# Altium schematic symbol library BeagleBone-AI_Library.SchLib: 164 symbols (part 14 of 14)
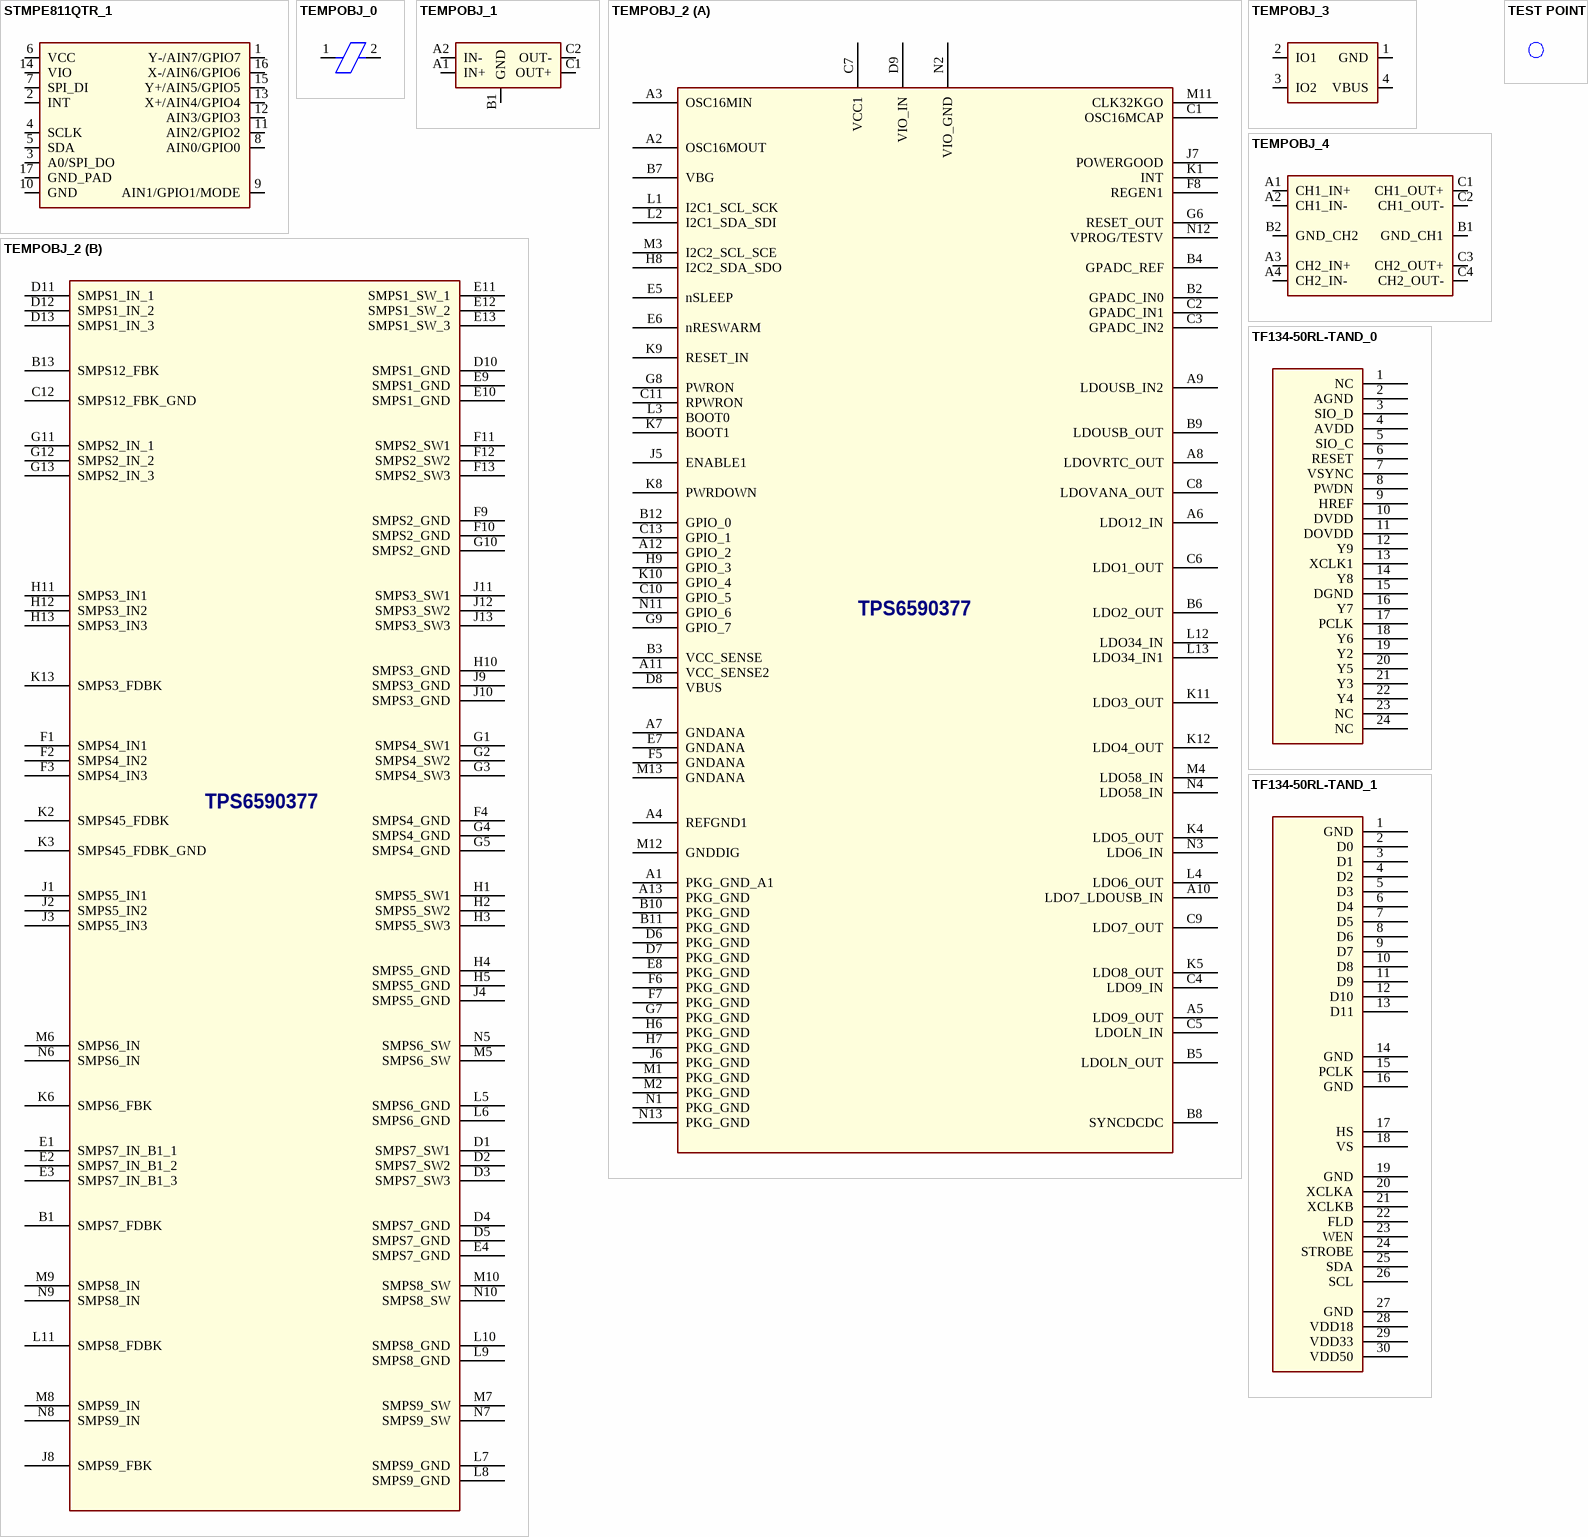
[diagram p174: symbols STMPE811QTR_1 to TF134-50RL-TAND_1]

## TEMPOBJ_2
designator U?
footprint bga12x12-169-55m
part A pins: A1 PKG_GND_A1 (power), A2 OSC16MOUT, A3 OSC16MIN, A4 REFGND1 (power), A5 LDO9_OUT, A6 LDO12_IN, A7 GNDANA (power), A8 LDOVRTC_OUT, A9 LDOUSB_IN2, A10 LDO7_LDOUSB_IN, A11 VCC_SENSE2, A12 GPIO_2, A13 PKG_GND (power), B2 GPADC_IN0, B3 VCC_SENSE, B4 GPADC_REF, B5 LDOLN_OUT, B6 LDO2_OUT, B7 VBG, B8 SYNCDCDC, B9 LDOUSB_OUT, B10 PKG_GND (power), B11 PKG_GND (power), B12 GPIO_0, C1 OSC16MCAP, C2 GPADC_IN1, C3 GPADC_IN2, C4 LDO9_IN, C5 LDOLN_IN, C6 LDO1_OUT, C7 VCC1 (power), C8 LDOVANA_OUT, C9 LDO7_OUT, C10 GPIO_5, C11 RPWRON, C13 GPIO_1, D6 PKG_GND (power), D7 PKG_GND (power), D8 VBUS, D9 VIO_IN (power), E5 nSLEEP, E6 nRESWARM, E7 GNDANA (power), E8 PKG_GND (power), F5 GNDANA (power), F6 PKG_GND (power), F7 PKG_GND (power), F8 REGEN1, G6 RESET_OUT, G7 PKG_GND (power), G8 PWRON, G9 GPIO_7, H6 PKG_GND (power), H7 PKG_GND (power), H8 I2C2_SDA_SDO, H9 GPIO_3, J5 ENABLE1, J6 PKG_GND (power), J7 POWERGOOD, K1 INT, K4 LDO5_OUT, K5 LDO8_OUT, K7 BOOT1, K8 PWRDOWN, K9 RESET_IN, K10 GPIO_4, K11 LDO3_OUT, K12 LDO4_OUT, L1 I2C1_SCL_SCK, L2 I2C1_SDA_SDI, L3 BOOT0, L4 LDO6_OUT, L12 LDO34_IN, L13 LDO34_IN1, M1 PKG_GND (power), M2 PKG_GND (power), M3 I2C2_SCL_SCE, M4 LDO58_IN (power), M11 CLK32KGO, M12 GNDDIG (power), M13 GNDANA (power), N1 PKG_GND (power), N2 VIO_GND (power), N3 LDO6_IN, N4 LDO58_IN (power), N11 GPIO_6, N12 VPROG/TESTV, N13 PKG_GND (power)
part B pins: B1 SMPS7_FDBK, B13 SMPS12_FBK, C12 SMPS12_FBK_GND, D1 SMPS7_SW1 (power), D2 SMPS7_SW2 (power), D3 SMPS7_SW3 (power), D4 SMPS7_GND (power), D5 SMPS7_GND (power), D10 SMPS1_GND (power), D11 SMPS1_IN_1, D12 SMPS1_IN_2, D13 SMPS1_IN_3, E1 SMPS7_IN_B1_1 (power), E2 SMPS7_IN_B1_2 (power), E3 SMPS7_IN_B1_3 (power), E4 SMPS7_GND (power), E9 SMPS1_GND (power), E10 SMPS1_GND (power), E11 SMPS1_SW_1, E12 SMPS1_SW_2, E13 SMPS1_SW_3, F1 SMPS4_IN1, F2 SMPS4_IN2, F3 SMPS4_IN3, F4 SMPS4_GND (power), F9 SMPS2_GND (power), F10 SMPS2_GND (power), F11 SMPS2_SW1, F12 SMPS2_SW2, F13 SMPS2_SW3, G1 SMPS4_SW1, G2 SMPS4_SW2, G3 SMPS4_SW3, G4 SMPS4_GND (power), G5 SMPS4_GND (power), G10 SMPS2_GND (power), G11 SMPS2_IN_1, G12 SMPS2_IN_2, G13 SMPS2_IN_3, H1 SMPS5_SW1, H2 SMPS5_SW2, H3 SMPS5_SW3, H4 SMPS5_GND (power), H5 SMPS5_GND (power), H10 SMPS3_GND (power), H11 SMPS3_IN1, H12 SMPS3_IN2, H13 SMPS3_IN3, J1 SMPS5_IN1, J2 SMPS5_IN2, J3 SMPS5_IN3, J4 SMPS5_GND (power), J8 SMPS9_FBK, J9 SMPS3_GND (power), J10 SMPS3_GND (power), J11 SMPS3_SW1, J12 SMPS3_SW2, J13 SMPS3_SW3, K2 SMPS45_FDBK, K3 SMPS45_FDBK_GND, K6 SMPS6_FBK (power), K13 SMPS3_FDBK, L5 SMPS6_GND (power), L6 SMPS6_GND (power), L7 SMPS9_GND (power), L8 SMPS9_GND (power), L9 SMPS8_GND (power), L10 SMPS8_GND (power), L11 SMPS8_FDBK, M5 SMPS6_SW (power), M6 SMPS6_IN (power), M7 SMPS9_SW (power), M8 SMPS9_IN (power), M9 SMPS8_IN (power), M10 SMPS8_SW (power), N5 SMPS6_SW (power), N6 SMPS6_IN (power), N7 SMPS9_SW (power), N8 SMPS9_IN (power), N9 SMPS8_IN (power), N10 SMPS8_SW (power)
part A text: TPS6590377
part B text: TPS6590377

## TEMPOBJ_3
designator D?
pins: 1 GND, 2 IO1, 3 IO2, 4 VBUS

## TEMPOBJ_4
designator U?
pins: A1 CH1_IN+, A2 CH1_IN-, A3 CH2_IN+, A4 CH2_IN-, B1 GND_CH1, B2 GND_CH2, C1 CH1_OUT+, C2 CH1_OUT-, C3 CH2_OUT+, C4 CH2_OUT-

## TEST POINT
designator TP?  (value not drawn)
footprint TP1-8040
pins: 1 TP

## TF134-50RL-TAND_0
designator J?
pins: 1 NC, 2 AGND, 3 SIO_D, 4 AVDD, 5 SIO_C, 6 RESET, 7 VSYNC, 8 PWDN, 9 HREF, 10 DVDD, 11 DOVDD, 12 Y9, 13 XCLK1, 14 Y8, 15 DGND, 16 Y7, 17 PCLK, 18 Y6, 19 Y2, 20 Y5, 21 Y3, 22 Y4, 23 NC, 24 NC

## TF134-50RL-TAND_1
designator J?
pins: 1 GND (power), 2 D0, 3 D1, 4 D2, 5 D3, 6 D4, 7 D5, 8 D6, 9 D7, 10 D8, 11 D9, 12 D10, 13 D11, 14 GND (power), 15 PCLK, 16 GND (power), 17 HS, 18 VS, 19 GND (power), 20 XCLKA, 21 XCLKB, 22 FLD, 23 WEN, 24 STROBE, 25 SDA, 26 SCL, 27 GND (power), 28 VDD18 (power), 29 VDD33 (power), 30 VDD50 (power)

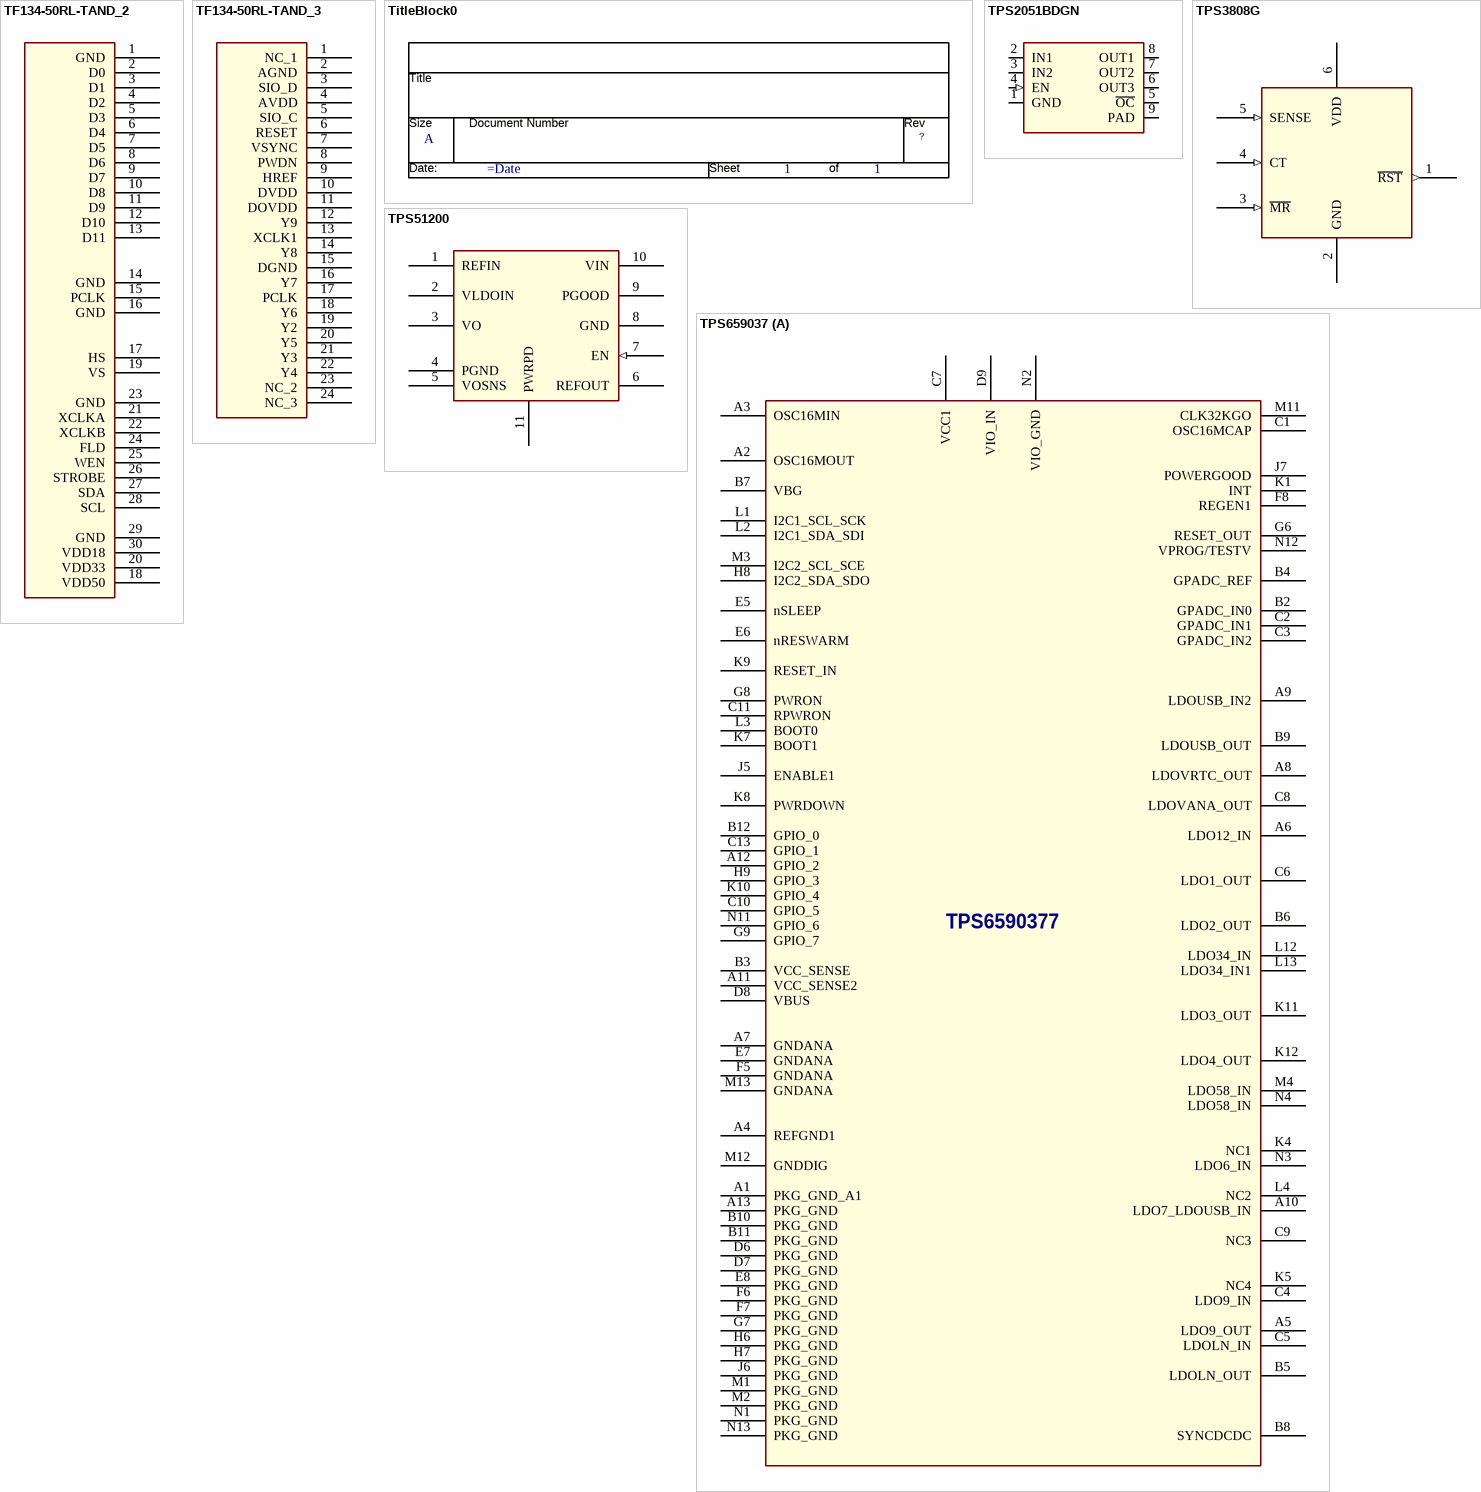
[diagram p156: symbols TF134-50RL-TAND_2 to TPS659037]

## TF134-50RL-TAND_2
designator J?
pins: 1 GND (power), 2 D0, 3 D1, 4 D2, 5 D3, 6 D4, 7 D5, 8 D6, 9 D7, 10 D8, 11 D9, 12 D10, 13 D11, 14 GND (power), 15 PCLK, 16 GND (power), 17 HS, 18 VDD50 (power), 19 VS, 20 VDD33 (power), 21 XCLKA, 22 XCLKB, 23 GND (power), 24 FLD, 25 WEN, 26 STROBE, 27 SDA, 28 SCL, 29 GND (power), 30 VDD18 (power)

## TF134-50RL-TAND_3
designator J?
pins: 1 NC_1, 2 AGND, 3 SIO_D, 4 AVDD, 5 SIO_C, 6 RESET, 7 VSYNC, 8 PWDN, 9 HREF, 10 DVDD, 11 DOVDD, 12 Y9, 13 XCLK1, 14 Y8, 15 DGND, 16 Y7, 17 PCLK, 18 Y6, 19 Y2, 20 Y5, 21 Y3, 22 Y4, 23 NC_2, 24 NC_3

## TitleBlock0
designator *  Page Size: A  Page Number: 1  (hidden comment: *)  (graphical)
Page Create Date: March  8, 1995; RevCode: ?; Page Count: 1; Page Modify Date: =Date
text: Title; Size; Document Number; Rev; Date:; Sheet; of

## TPS2051BDGN
designator U?
pins: 1 GND (power), 2 IN1 (power), 3 IN2 (power), 4 EN (in), 5 ~{OC}, 6 OUT3 (power), 7 OUT2 (power), 8 OUT1 (power), 9 PAD

## TPS3808G
designator U?
pins: 1 ~{RST} (out), 2 GND (power), 3 ~{MR} (in), 4 CT (in), 5 SENSE (in), 6 VDD (power)

## TPS51200
designator U?
pins: 1 REFIN, 2 VLDOIN, 3 VO, 4 PGND (power), 5 VOSNS, 6 REFOUT, 7 EN (in), 8 GND (power), 9 PGOOD, 10 VIN, 11 PWRPD (power)

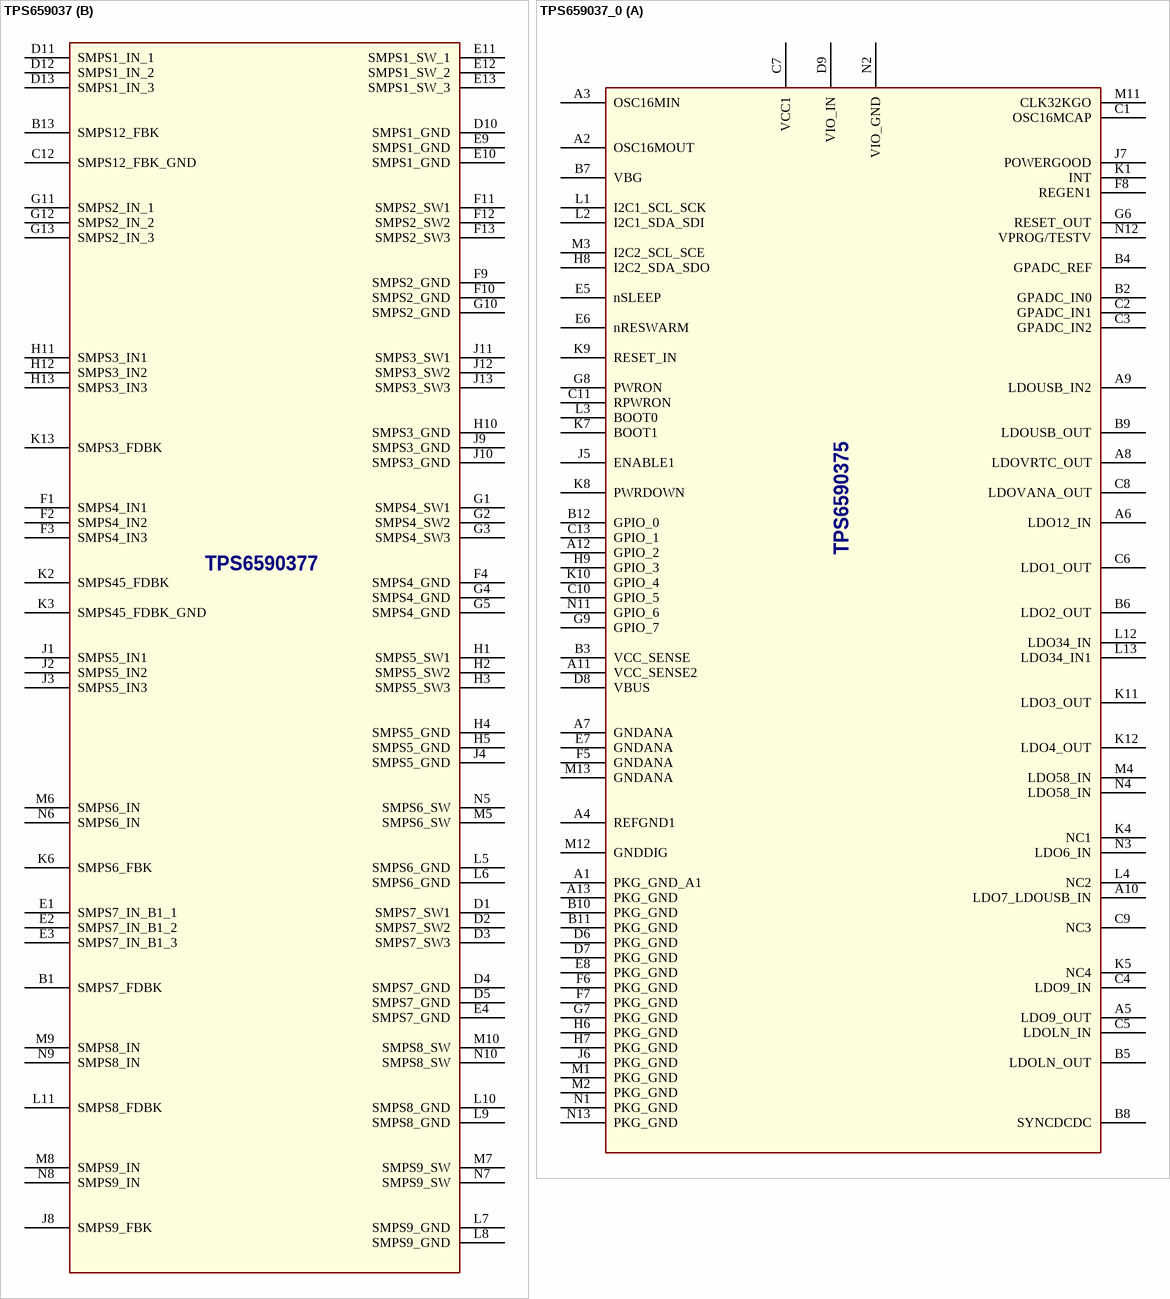
[diagram p157: symbols TPS659037 to TPS659037_0]

## TPS659037
designator U?
footprint bga12x12-169-55m
part A pins: A1 PKG_GND_A1 (power), A2 OSC16MOUT, A3 OSC16MIN, A4 REFGND1 (power), A5 LDO9_OUT, A6 LDO12_IN, A7 GNDANA (power), A8 LDOVRTC_OUT, A9 LDOUSB_IN2, A10 LDO7_LDOUSB_IN, A11 VCC_SENSE2, A12 GPIO_2, A13 PKG_GND (power), B2 GPADC_IN0, B3 VCC_SENSE, B4 GPADC_REF, B5 LDOLN_OUT, B6 LDO2_OUT, B7 VBG, B8 SYNCDCDC, B9 LDOUSB_OUT, B10 PKG_GND (power), B11 PKG_GND (power), B12 GPIO_0, C1 OSC16MCAP, C2 GPADC_IN1, C3 GPADC_IN2, C4 LDO9_IN, C5 LDOLN_IN, C6 LDO1_OUT, C7 VCC1 (power), C8 LDOVANA_OUT, C9 NC3, C10 GPIO_5, C11 RPWRON, C13 GPIO_1, D6 PKG_GND (power), D7 PKG_GND (power), D8 VBUS, D9 VIO_IN (power), E5 nSLEEP, E6 nRESWARM, E7 GNDANA (power), E8 PKG_GND (power), F5 GNDANA (power), F6 PKG_GND (power), F7 PKG_GND (power), F8 REGEN1, G6 RESET_OUT, G7 PKG_GND (power), G8 PWRON, G9 GPIO_7, H6 PKG_GND (power), H7 PKG_GND (power), H8 I2C2_SDA_SDO, H9 GPIO_3, J5 ENABLE1, J6 PKG_GND (power), J7 POWERGOOD, K1 INT, K4 NC1, K5 NC4, K7 BOOT1, K8 PWRDOWN, K9 RESET_IN, K10 GPIO_4, K11 LDO3_OUT, K12 LDO4_OUT, L1 I2C1_SCL_SCK, L2 I2C1_SDA_SDI, L3 BOOT0, L4 NC2, L12 LDO34_IN, L13 LDO34_IN1, M1 PKG_GND (power), M2 PKG_GND (power), M3 I2C2_SCL_SCE, M4 LDO58_IN (power), M11 CLK32KGO, M12 GNDDIG (power), M13 GNDANA (power), N1 PKG_GND (power), N2 VIO_GND (power), N3 LDO6_IN, N4 LDO58_IN (power), N11 GPIO_6, N12 VPROG/TESTV, N13 PKG_GND (power)
part B pins: B1 SMPS7_FDBK, B13 SMPS12_FBK, C12 SMPS12_FBK_GND, D1 SMPS7_SW1 (power), D2 SMPS7_SW2 (power), D3 SMPS7_SW3 (power), D4 SMPS7_GND (power), D5 SMPS7_GND (power), D10 SMPS1_GND (power), D11 SMPS1_IN_1, D12 SMPS1_IN_2, D13 SMPS1_IN_3, E1 SMPS7_IN_B1_1 (power), E2 SMPS7_IN_B1_2 (power), E3 SMPS7_IN_B1_3 (power), E4 SMPS7_GND (power), E9 SMPS1_GND (power), E10 SMPS1_GND (power), E11 SMPS1_SW_1, E12 SMPS1_SW_2, E13 SMPS1_SW_3, F1 SMPS4_IN1, F2 SMPS4_IN2, F3 SMPS4_IN3, F4 SMPS4_GND (power), F9 SMPS2_GND (power), F10 SMPS2_GND (power), F11 SMPS2_SW1, F12 SMPS2_SW2, F13 SMPS2_SW3, G1 SMPS4_SW1, G2 SMPS4_SW2, G3 SMPS4_SW3, G4 SMPS4_GND (power), G5 SMPS4_GND (power), G10 SMPS2_GND (power), G11 SMPS2_IN_1, G12 SMPS2_IN_2, G13 SMPS2_IN_3, H1 SMPS5_SW1, H2 SMPS5_SW2, H3 SMPS5_SW3, H4 SMPS5_GND (power), H5 SMPS5_GND (power), H10 SMPS3_GND (power), H11 SMPS3_IN1, H12 SMPS3_IN2, H13 SMPS3_IN3, J1 SMPS5_IN1, J2 SMPS5_IN2, J3 SMPS5_IN3, J4 SMPS5_GND (power), J8 SMPS9_FBK, J9 SMPS3_GND (power), J10 SMPS3_GND (power), J11 SMPS3_SW1, J12 SMPS3_SW2, J13 SMPS3_SW3, K2 SMPS45_FDBK, K3 SMPS45_FDBK_GND, K6 SMPS6_FBK (power), K13 SMPS3_FDBK, L5 SMPS6_GND (power), L6 SMPS6_GND (power), L7 SMPS9_GND (power), L8 SMPS9_GND (power), L9 SMPS8_GND (power), L10 SMPS8_GND (power), L11 SMPS8_FDBK, M5 SMPS6_SW (power), M6 SMPS6_IN (power), M7 SMPS9_SW (power), M8 SMPS9_IN (power), M9 SMPS8_IN (power), M10 SMPS8_SW (power), N5 SMPS6_SW (power), N6 SMPS6_IN (power), N7 SMPS9_SW (power), N8 SMPS9_IN (power), N9 SMPS8_IN (power), N10 SMPS8_SW (power)
part A text: TPS6590377
part B text: TPS6590377

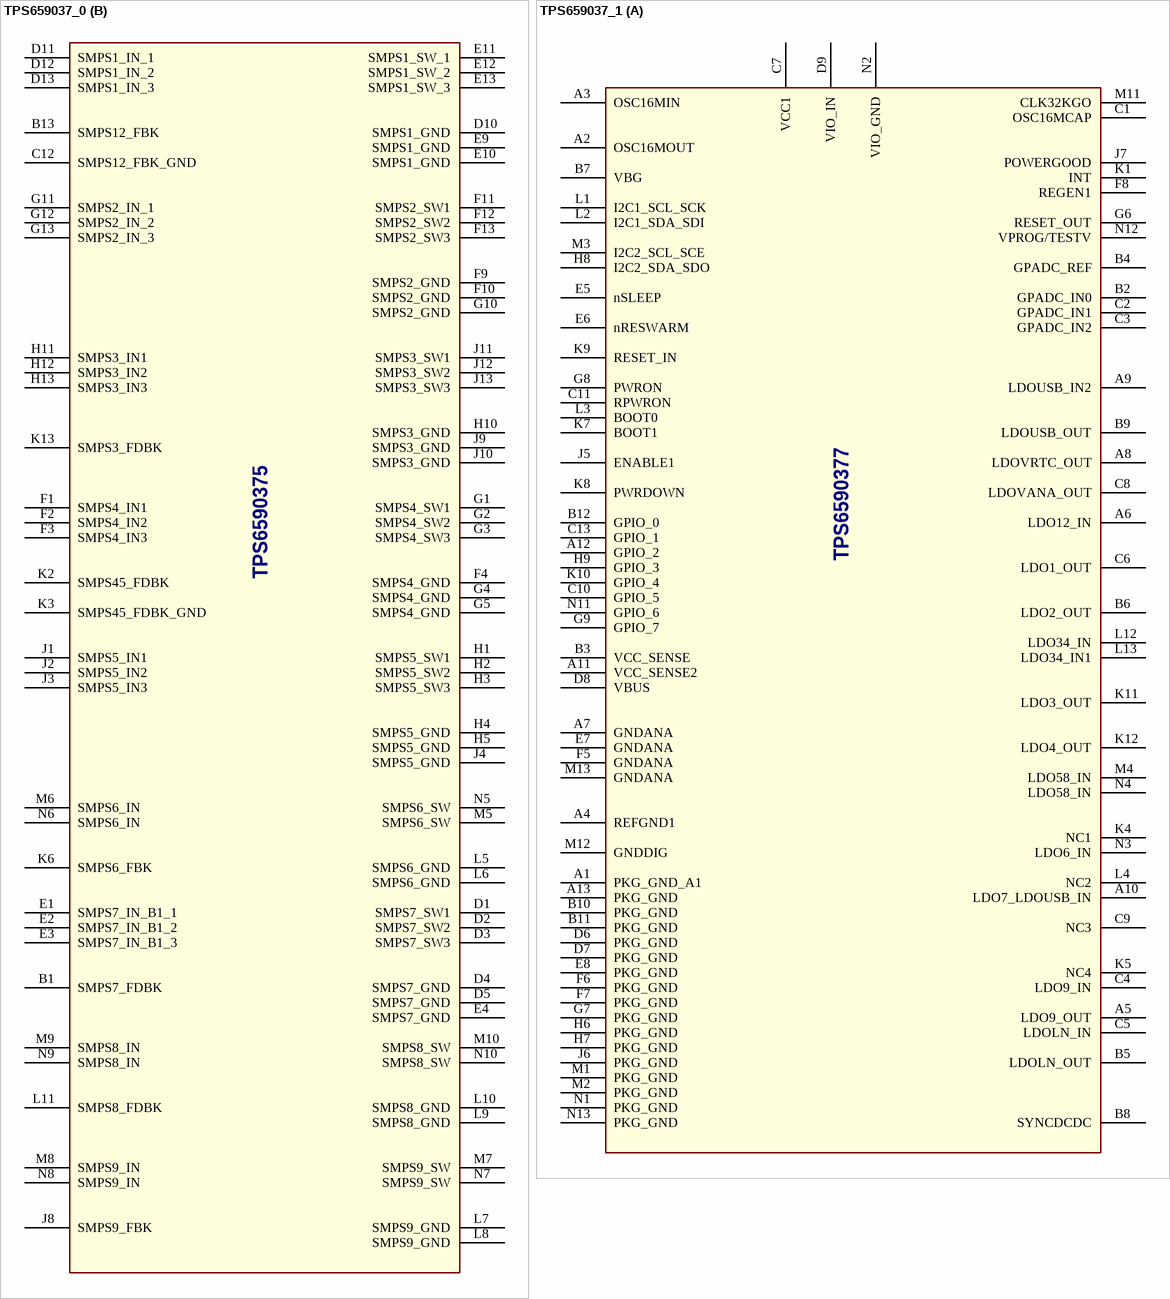
[diagram p158: symbols TPS659037_0 to TPS659037_1]

## TPS659037_0
designator U?
footprint bga12x12-169-55m
part A pins: A1 PKG_GND_A1 (power), A2 OSC16MOUT, A3 OSC16MIN, A4 REFGND1 (power), A5 LDO9_OUT, A6 LDO12_IN, A7 GNDANA (power), A8 LDOVRTC_OUT, A9 LDOUSB_IN2, A10 LDO7_LDOUSB_IN, A11 VCC_SENSE2, A12 GPIO_2, A13 PKG_GND (power), B2 GPADC_IN0, B3 VCC_SENSE, B4 GPADC_REF, B5 LDOLN_OUT, B6 LDO2_OUT, B7 VBG, B8 SYNCDCDC, B9 LDOUSB_OUT, B10 PKG_GND (power), B11 PKG_GND (power), B12 GPIO_0, C1 OSC16MCAP, C2 GPADC_IN1, C3 GPADC_IN2, C4 LDO9_IN, C5 LDOLN_IN, C6 LDO1_OUT, C7 VCC1 (power), C8 LDOVANA_OUT, C9 NC3, C10 GPIO_5, C11 RPWRON, C13 GPIO_1, D6 PKG_GND (power), D7 PKG_GND (power), D8 VBUS, D9 VIO_IN (power), E5 nSLEEP, E6 nRESWARM, E7 GNDANA (power), E8 PKG_GND (power), F5 GNDANA (power), F6 PKG_GND (power), F7 PKG_GND (power), F8 REGEN1, G6 RESET_OUT, G7 PKG_GND (power), G8 PWRON, G9 GPIO_7, H6 PKG_GND (power), H7 PKG_GND (power), H8 I2C2_SDA_SDO, H9 GPIO_3, J5 ENABLE1, J6 PKG_GND (power), J7 POWERGOOD, K1 INT, K4 NC1, K5 NC4, K7 BOOT1, K8 PWRDOWN, K9 RESET_IN, K10 GPIO_4, K11 LDO3_OUT, K12 LDO4_OUT, L1 I2C1_SCL_SCK, L2 I2C1_SDA_SDI, L3 BOOT0, L4 NC2, L12 LDO34_IN, L13 LDO34_IN1, M1 PKG_GND (power), M2 PKG_GND (power), M3 I2C2_SCL_SCE, M4 LDO58_IN (power), M11 CLK32KGO, M12 GNDDIG (power), M13 GNDANA (power), N1 PKG_GND (power), N2 VIO_GND (power), N3 LDO6_IN, N4 LDO58_IN (power), N11 GPIO_6, N12 VPROG/TESTV, N13 PKG_GND (power)
part B pins: B1 SMPS7_FDBK, B13 SMPS12_FBK, C12 SMPS12_FBK_GND, D1 SMPS7_SW1 (power), D2 SMPS7_SW2 (power), D3 SMPS7_SW3 (power), D4 SMPS7_GND (power), D5 SMPS7_GND (power), D10 SMPS1_GND (power), D11 SMPS1_IN_1, D12 SMPS1_IN_2, D13 SMPS1_IN_3, E1 SMPS7_IN_B1_1 (power), E2 SMPS7_IN_B1_2 (power), E3 SMPS7_IN_B1_3 (power), E4 SMPS7_GND (power), E9 SMPS1_GND (power), E10 SMPS1_GND (power), E11 SMPS1_SW_1, E12 SMPS1_SW_2, E13 SMPS1_SW_3, F1 SMPS4_IN1, F2 SMPS4_IN2, F3 SMPS4_IN3, F4 SMPS4_GND (power), F9 SMPS2_GND (power), F10 SMPS2_GND (power), F11 SMPS2_SW1, F12 SMPS2_SW2, F13 SMPS2_SW3, G1 SMPS4_SW1, G2 SMPS4_SW2, G3 SMPS4_SW3, G4 SMPS4_GND (power), G5 SMPS4_GND (power), G10 SMPS2_GND (power), G11 SMPS2_IN_1, G12 SMPS2_IN_2, G13 SMPS2_IN_3, H1 SMPS5_SW1, H2 SMPS5_SW2, H3 SMPS5_SW3, H4 SMPS5_GND (power), H5 SMPS5_GND (power), H10 SMPS3_GND (power), H11 SMPS3_IN1, H12 SMPS3_IN2, H13 SMPS3_IN3, J1 SMPS5_IN1, J2 SMPS5_IN2, J3 SMPS5_IN3, J4 SMPS5_GND (power), J8 SMPS9_FBK, J9 SMPS3_GND (power), J10 SMPS3_GND (power), J11 SMPS3_SW1, J12 SMPS3_SW2, J13 SMPS3_SW3, K2 SMPS45_FDBK, K3 SMPS45_FDBK_GND, K6 SMPS6_FBK (power), K13 SMPS3_FDBK, L5 SMPS6_GND (power), L6 SMPS6_GND (power), L7 SMPS9_GND (power), L8 SMPS9_GND (power), L9 SMPS8_GND (power), L10 SMPS8_GND (power), L11 SMPS8_FDBK, M5 SMPS6_SW (power), M6 SMPS6_IN (power), M7 SMPS9_SW (power), M8 SMPS9_IN (power), M9 SMPS8_IN (power), M10 SMPS8_SW (power), N5 SMPS6_SW (power), N6 SMPS6_IN (power), N7 SMPS9_SW (power), N8 SMPS9_IN (power), N9 SMPS8_IN (power), N10 SMPS8_SW (power)
part A text: TPS6590375
part B text: TPS6590375

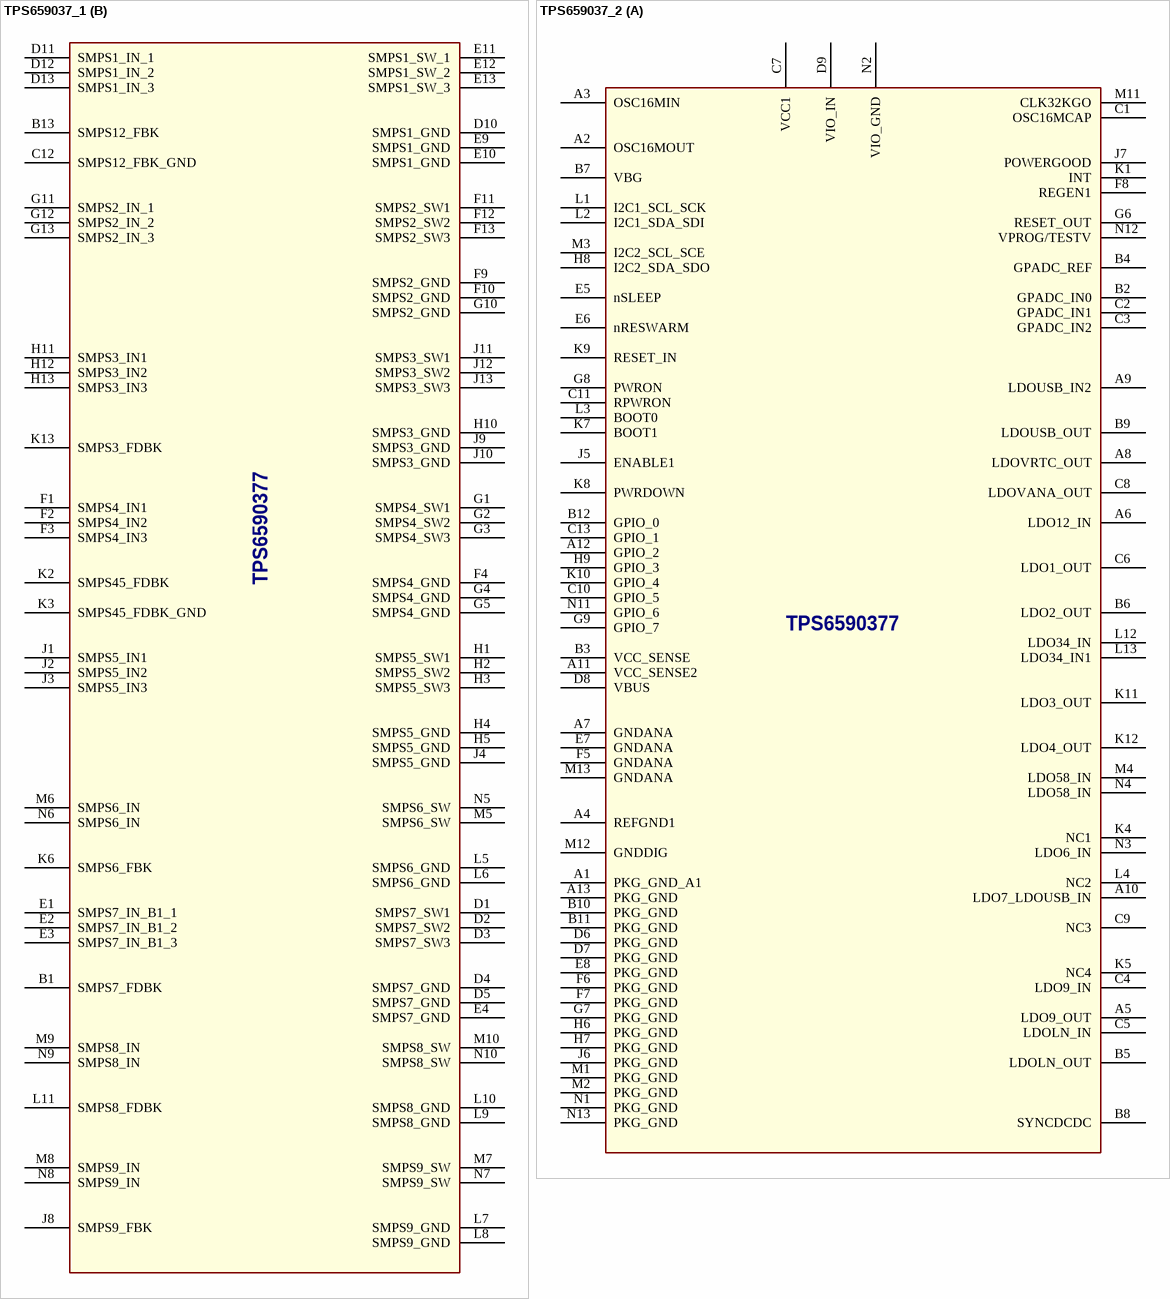
[diagram p159: symbols TPS659037_1 to TPS659037_2]

## TPS659037_1
designator U?
footprint bga12x12-169-55m
part A pins: A1 PKG_GND_A1 (power), A2 OSC16MOUT, A3 OSC16MIN, A4 REFGND1 (power), A5 LDO9_OUT, A6 LDO12_IN, A7 GNDANA (power), A8 LDOVRTC_OUT, A9 LDOUSB_IN2, A10 LDO7_LDOUSB_IN, A11 VCC_SENSE2, A12 GPIO_2, A13 PKG_GND (power), B2 GPADC_IN0, B3 VCC_SENSE, B4 GPADC_REF, B5 LDOLN_OUT, B6 LDO2_OUT, B7 VBG, B8 SYNCDCDC, B9 LDOUSB_OUT, B10 PKG_GND (power), B11 PKG_GND (power), B12 GPIO_0, C1 OSC16MCAP, C2 GPADC_IN1, C3 GPADC_IN2, C4 LDO9_IN, C5 LDOLN_IN, C6 LDO1_OUT, C7 VCC1 (power), C8 LDOVANA_OUT, C9 NC3, C10 GPIO_5, C11 RPWRON, C13 GPIO_1, D6 PKG_GND (power), D7 PKG_GND (power), D8 VBUS, D9 VIO_IN (power), E5 nSLEEP, E6 nRESWARM, E7 GNDANA (power), E8 PKG_GND (power), F5 GNDANA (power), F6 PKG_GND (power), F7 PKG_GND (power), F8 REGEN1, G6 RESET_OUT, G7 PKG_GND (power), G8 PWRON, G9 GPIO_7, H6 PKG_GND (power), H7 PKG_GND (power), H8 I2C2_SDA_SDO, H9 GPIO_3, J5 ENABLE1, J6 PKG_GND (power), J7 POWERGOOD, K1 INT, K4 NC1, K5 NC4, K7 BOOT1, K8 PWRDOWN, K9 RESET_IN, K10 GPIO_4, K11 LDO3_OUT, K12 LDO4_OUT, L1 I2C1_SCL_SCK, L2 I2C1_SDA_SDI, L3 BOOT0, L4 NC2, L12 LDO34_IN, L13 LDO34_IN1, M1 PKG_GND (power), M2 PKG_GND (power), M3 I2C2_SCL_SCE, M4 LDO58_IN (power), M11 CLK32KGO, M12 GNDDIG (power), M13 GNDANA (power), N1 PKG_GND (power), N2 VIO_GND (power), N3 LDO6_IN, N4 LDO58_IN (power), N11 GPIO_6, N12 VPROG/TESTV, N13 PKG_GND (power)
part B pins: B1 SMPS7_FDBK, B13 SMPS12_FBK, C12 SMPS12_FBK_GND, D1 SMPS7_SW1 (power), D2 SMPS7_SW2 (power), D3 SMPS7_SW3 (power), D4 SMPS7_GND (power), D5 SMPS7_GND (power), D10 SMPS1_GND (power), D11 SMPS1_IN_1, D12 SMPS1_IN_2, D13 SMPS1_IN_3, E1 SMPS7_IN_B1_1 (power), E2 SMPS7_IN_B1_2 (power), E3 SMPS7_IN_B1_3 (power), E4 SMPS7_GND (power), E9 SMPS1_GND (power), E10 SMPS1_GND (power), E11 SMPS1_SW_1, E12 SMPS1_SW_2, E13 SMPS1_SW_3, F1 SMPS4_IN1, F2 SMPS4_IN2, F3 SMPS4_IN3, F4 SMPS4_GND (power), F9 SMPS2_GND (power), F10 SMPS2_GND (power), F11 SMPS2_SW1, F12 SMPS2_SW2, F13 SMPS2_SW3, G1 SMPS4_SW1, G2 SMPS4_SW2, G3 SMPS4_SW3, G4 SMPS4_GND (power), G5 SMPS4_GND (power), G10 SMPS2_GND (power), G11 SMPS2_IN_1, G12 SMPS2_IN_2, G13 SMPS2_IN_3, H1 SMPS5_SW1, H2 SMPS5_SW2, H3 SMPS5_SW3, H4 SMPS5_GND (power), H5 SMPS5_GND (power), H10 SMPS3_GND (power), H11 SMPS3_IN1, H12 SMPS3_IN2, H13 SMPS3_IN3, J1 SMPS5_IN1, J2 SMPS5_IN2, J3 SMPS5_IN3, J4 SMPS5_GND (power), J8 SMPS9_FBK, J9 SMPS3_GND (power), J10 SMPS3_GND (power), J11 SMPS3_SW1, J12 SMPS3_SW2, J13 SMPS3_SW3, K2 SMPS45_FDBK, K3 SMPS45_FDBK_GND, K6 SMPS6_FBK (power), K13 SMPS3_FDBK, L5 SMPS6_GND (power), L6 SMPS6_GND (power), L7 SMPS9_GND (power), L8 SMPS9_GND (power), L9 SMPS8_GND (power), L10 SMPS8_GND (power), L11 SMPS8_FDBK, M5 SMPS6_SW (power), M6 SMPS6_IN (power), M7 SMPS9_SW (power), M8 SMPS9_IN (power), M9 SMPS8_IN (power), M10 SMPS8_SW (power), N5 SMPS6_SW (power), N6 SMPS6_IN (power), N7 SMPS9_SW (power), N8 SMPS9_IN (power), N9 SMPS8_IN (power), N10 SMPS8_SW (power)
part A text: TPS6590377
part B text: TPS6590377

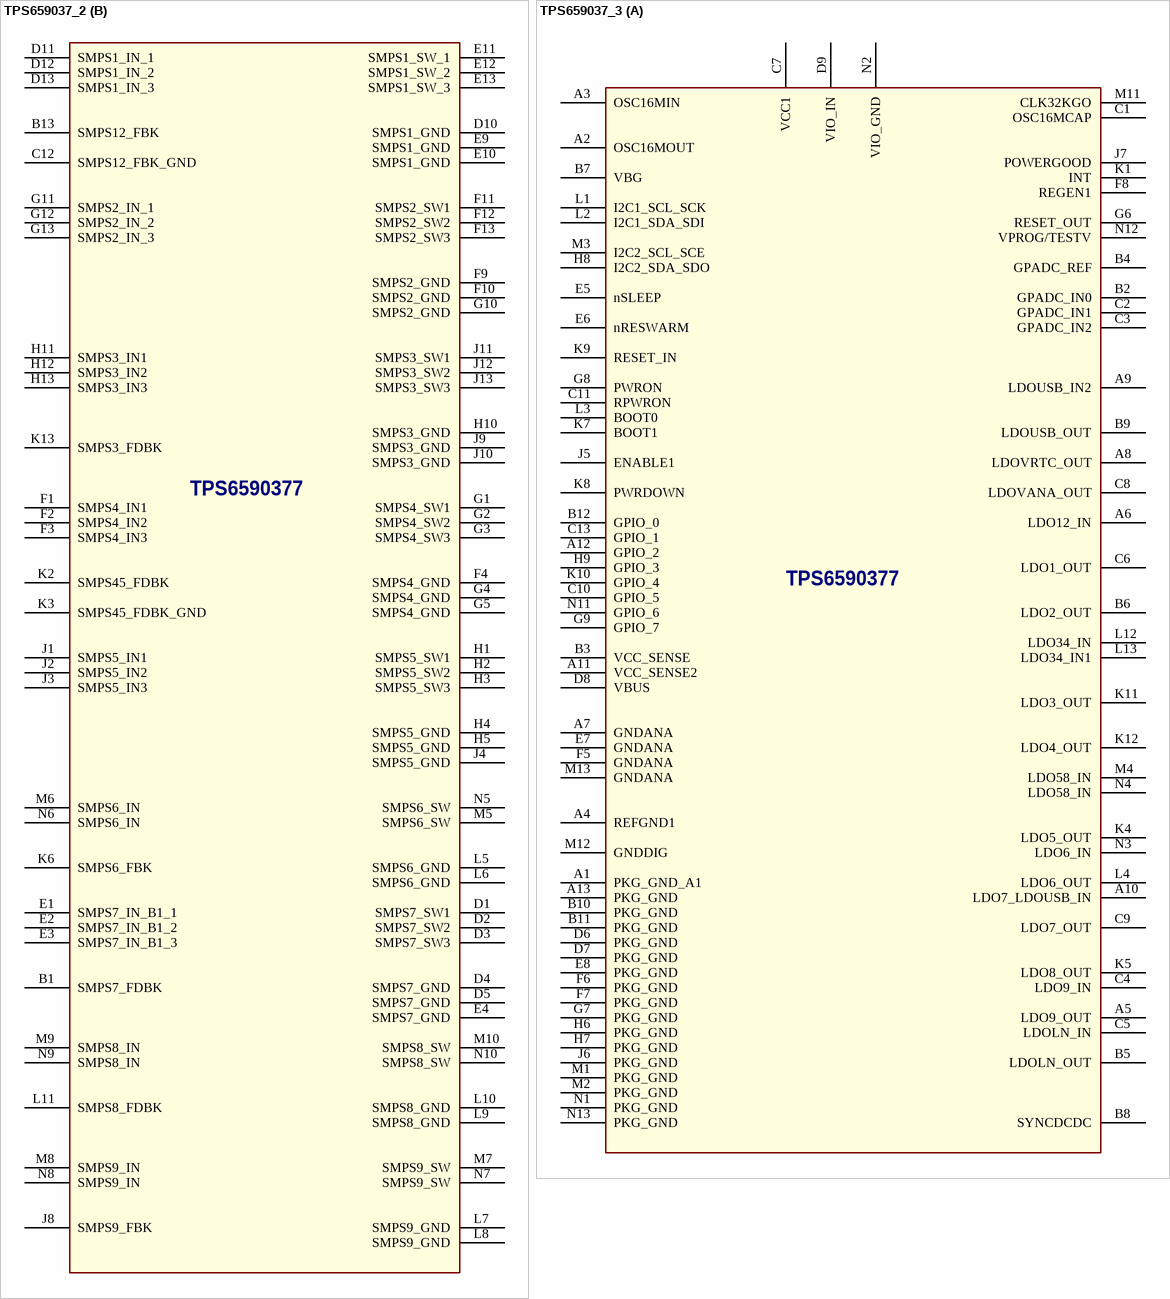
[diagram p160: symbols TPS659037_2 to TPS659037_3]

## TPS659037_2
designator U?
footprint bga12x12-169-55m
part A pins: A1 PKG_GND_A1 (power), A2 OSC16MOUT, A3 OSC16MIN, A4 REFGND1 (power), A5 LDO9_OUT, A6 LDO12_IN, A7 GNDANA (power), A8 LDOVRTC_OUT, A9 LDOUSB_IN2, A10 LDO7_LDOUSB_IN, A11 VCC_SENSE2, A12 GPIO_2, A13 PKG_GND (power), B2 GPADC_IN0, B3 VCC_SENSE, B4 GPADC_REF, B5 LDOLN_OUT, B6 LDO2_OUT, B7 VBG, B8 SYNCDCDC, B9 LDOUSB_OUT, B10 PKG_GND (power), B11 PKG_GND (power), B12 GPIO_0, C1 OSC16MCAP, C2 GPADC_IN1, C3 GPADC_IN2, C4 LDO9_IN, C5 LDOLN_IN, C6 LDO1_OUT, C7 VCC1 (power), C8 LDOVANA_OUT, C9 NC3, C10 GPIO_5, C11 RPWRON, C13 GPIO_1, D6 PKG_GND (power), D7 PKG_GND (power), D8 VBUS, D9 VIO_IN (power), E5 nSLEEP, E6 nRESWARM, E7 GNDANA (power), E8 PKG_GND (power), F5 GNDANA (power), F6 PKG_GND (power), F7 PKG_GND (power), F8 REGEN1, G6 RESET_OUT, G7 PKG_GND (power), G8 PWRON, G9 GPIO_7, H6 PKG_GND (power), H7 PKG_GND (power), H8 I2C2_SDA_SDO, H9 GPIO_3, J5 ENABLE1, J6 PKG_GND (power), J7 POWERGOOD, K1 INT, K4 NC1, K5 NC4, K7 BOOT1, K8 PWRDOWN, K9 RESET_IN, K10 GPIO_4, K11 LDO3_OUT, K12 LDO4_OUT, L1 I2C1_SCL_SCK, L2 I2C1_SDA_SDI, L3 BOOT0, L4 NC2, L12 LDO34_IN, L13 LDO34_IN1, M1 PKG_GND (power), M2 PKG_GND (power), M3 I2C2_SCL_SCE, M4 LDO58_IN (power), M11 CLK32KGO, M12 GNDDIG (power), M13 GNDANA (power), N1 PKG_GND (power), N2 VIO_GND (power), N3 LDO6_IN, N4 LDO58_IN (power), N11 GPIO_6, N12 VPROG/TESTV, N13 PKG_GND (power)
part B pins: B1 SMPS7_FDBK, B13 SMPS12_FBK, C12 SMPS12_FBK_GND, D1 SMPS7_SW1 (power), D2 SMPS7_SW2 (power), D3 SMPS7_SW3 (power), D4 SMPS7_GND (power), D5 SMPS7_GND (power), D10 SMPS1_GND (power), D11 SMPS1_IN_1, D12 SMPS1_IN_2, D13 SMPS1_IN_3, E1 SMPS7_IN_B1_1 (power), E2 SMPS7_IN_B1_2 (power), E3 SMPS7_IN_B1_3 (power), E4 SMPS7_GND (power), E9 SMPS1_GND (power), E10 SMPS1_GND (power), E11 SMPS1_SW_1, E12 SMPS1_SW_2, E13 SMPS1_SW_3, F1 SMPS4_IN1, F2 SMPS4_IN2, F3 SMPS4_IN3, F4 SMPS4_GND (power), F9 SMPS2_GND (power), F10 SMPS2_GND (power), F11 SMPS2_SW1, F12 SMPS2_SW2, F13 SMPS2_SW3, G1 SMPS4_SW1, G2 SMPS4_SW2, G3 SMPS4_SW3, G4 SMPS4_GND (power), G5 SMPS4_GND (power), G10 SMPS2_GND (power), G11 SMPS2_IN_1, G12 SMPS2_IN_2, G13 SMPS2_IN_3, H1 SMPS5_SW1, H2 SMPS5_SW2, H3 SMPS5_SW3, H4 SMPS5_GND (power), H5 SMPS5_GND (power), H10 SMPS3_GND (power), H11 SMPS3_IN1, H12 SMPS3_IN2, H13 SMPS3_IN3, J1 SMPS5_IN1, J2 SMPS5_IN2, J3 SMPS5_IN3, J4 SMPS5_GND (power), J8 SMPS9_FBK, J9 SMPS3_GND (power), J10 SMPS3_GND (power), J11 SMPS3_SW1, J12 SMPS3_SW2, J13 SMPS3_SW3, K2 SMPS45_FDBK, K3 SMPS45_FDBK_GND, K6 SMPS6_FBK (power), K13 SMPS3_FDBK, L5 SMPS6_GND (power), L6 SMPS6_GND (power), L7 SMPS9_GND (power), L8 SMPS9_GND (power), L9 SMPS8_GND (power), L10 SMPS8_GND (power), L11 SMPS8_FDBK, M5 SMPS6_SW (power), M6 SMPS6_IN (power), M7 SMPS9_SW (power), M8 SMPS9_IN (power), M9 SMPS8_IN (power), M10 SMPS8_SW (power), N5 SMPS6_SW (power), N6 SMPS6_IN (power), N7 SMPS9_SW (power), N8 SMPS9_IN (power), N9 SMPS8_IN (power), N10 SMPS8_SW (power)
part A text: TPS6590377
part B text: TPS6590377

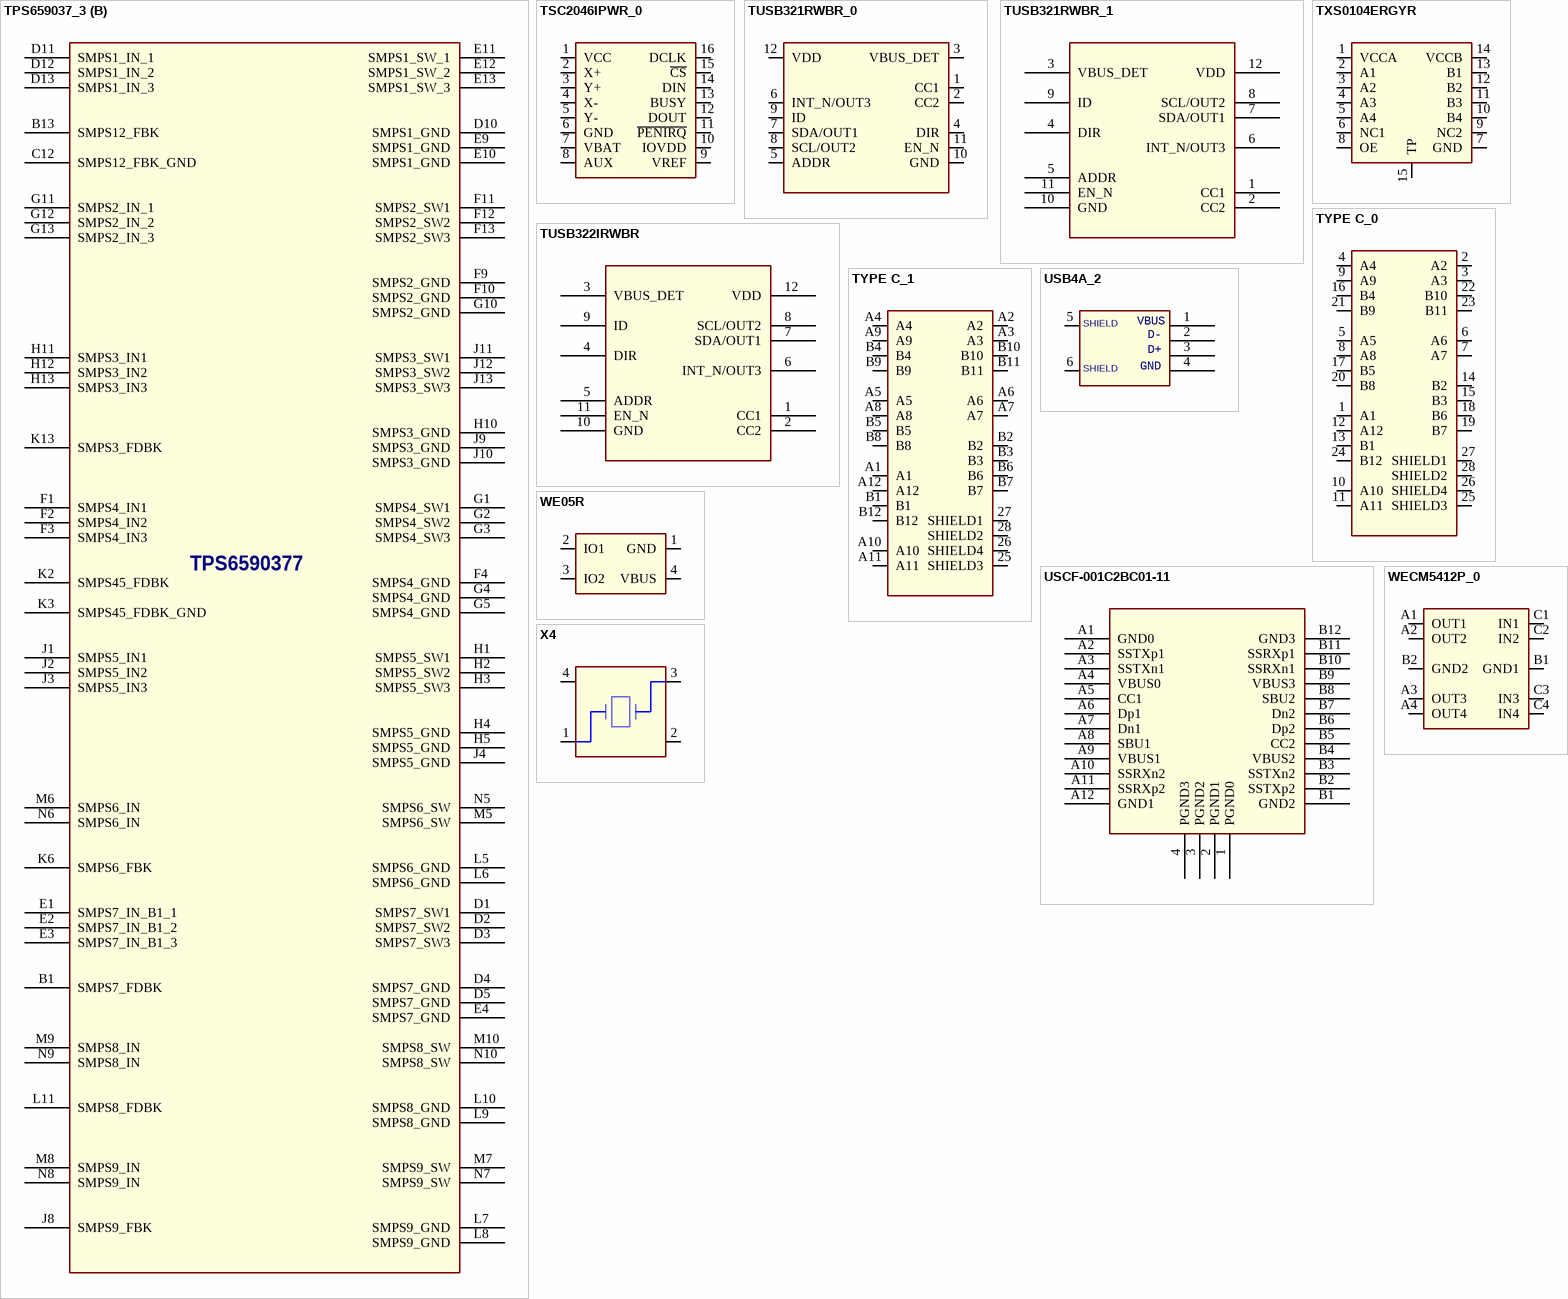
[diagram p161: symbols TPS659037_3 to X4]

## TPS659037_3
designator U?
footprint bga12x12-169-55m
part A pins: A1 PKG_GND_A1 (power), A2 OSC16MOUT, A3 OSC16MIN, A4 REFGND1 (power), A5 LDO9_OUT, A6 LDO12_IN, A7 GNDANA (power), A8 LDOVRTC_OUT, A9 LDOUSB_IN2, A10 LDO7_LDOUSB_IN, A11 VCC_SENSE2, A12 GPIO_2, A13 PKG_GND (power), B2 GPADC_IN0, B3 VCC_SENSE, B4 GPADC_REF, B5 LDOLN_OUT, B6 LDO2_OUT, B7 VBG, B8 SYNCDCDC, B9 LDOUSB_OUT, B10 PKG_GND (power), B11 PKG_GND (power), B12 GPIO_0, C1 OSC16MCAP, C2 GPADC_IN1, C3 GPADC_IN2, C4 LDO9_IN, C5 LDOLN_IN, C6 LDO1_OUT, C7 VCC1 (power), C8 LDOVANA_OUT, C9 LDO7_OUT, C10 GPIO_5, C11 RPWRON, C13 GPIO_1, D6 PKG_GND (power), D7 PKG_GND (power), D8 VBUS, D9 VIO_IN (power), E5 nSLEEP, E6 nRESWARM, E7 GNDANA (power), E8 PKG_GND (power), F5 GNDANA (power), F6 PKG_GND (power), F7 PKG_GND (power), F8 REGEN1, G6 RESET_OUT, G7 PKG_GND (power), G8 PWRON, G9 GPIO_7, H6 PKG_GND (power), H7 PKG_GND (power), H8 I2C2_SDA_SDO, H9 GPIO_3, J5 ENABLE1, J6 PKG_GND (power), J7 POWERGOOD, K1 INT, K4 LDO5_OUT, K5 LDO8_OUT, K7 BOOT1, K8 PWRDOWN, K9 RESET_IN, K10 GPIO_4, K11 LDO3_OUT, K12 LDO4_OUT, L1 I2C1_SCL_SCK, L2 I2C1_SDA_SDI, L3 BOOT0, L4 LDO6_OUT, L12 LDO34_IN, L13 LDO34_IN1, M1 PKG_GND (power), M2 PKG_GND (power), M3 I2C2_SCL_SCE, M4 LDO58_IN (power), M11 CLK32KGO, M12 GNDDIG (power), M13 GNDANA (power), N1 PKG_GND (power), N2 VIO_GND (power), N3 LDO6_IN, N4 LDO58_IN (power), N11 GPIO_6, N12 VPROG/TESTV, N13 PKG_GND (power)
part B pins: B1 SMPS7_FDBK, B13 SMPS12_FBK, C12 SMPS12_FBK_GND, D1 SMPS7_SW1 (power), D2 SMPS7_SW2 (power), D3 SMPS7_SW3 (power), D4 SMPS7_GND (power), D5 SMPS7_GND (power), D10 SMPS1_GND (power), D11 SMPS1_IN_1, D12 SMPS1_IN_2, D13 SMPS1_IN_3, E1 SMPS7_IN_B1_1 (power), E2 SMPS7_IN_B1_2 (power), E3 SMPS7_IN_B1_3 (power), E4 SMPS7_GND (power), E9 SMPS1_GND (power), E10 SMPS1_GND (power), E11 SMPS1_SW_1, E12 SMPS1_SW_2, E13 SMPS1_SW_3, F1 SMPS4_IN1, F2 SMPS4_IN2, F3 SMPS4_IN3, F4 SMPS4_GND (power), F9 SMPS2_GND (power), F10 SMPS2_GND (power), F11 SMPS2_SW1, F12 SMPS2_SW2, F13 SMPS2_SW3, G1 SMPS4_SW1, G2 SMPS4_SW2, G3 SMPS4_SW3, G4 SMPS4_GND (power), G5 SMPS4_GND (power), G10 SMPS2_GND (power), G11 SMPS2_IN_1, G12 SMPS2_IN_2, G13 SMPS2_IN_3, H1 SMPS5_SW1, H2 SMPS5_SW2, H3 SMPS5_SW3, H4 SMPS5_GND (power), H5 SMPS5_GND (power), H10 SMPS3_GND (power), H11 SMPS3_IN1, H12 SMPS3_IN2, H13 SMPS3_IN3, J1 SMPS5_IN1, J2 SMPS5_IN2, J3 SMPS5_IN3, J4 SMPS5_GND (power), J8 SMPS9_FBK, J9 SMPS3_GND (power), J10 SMPS3_GND (power), J11 SMPS3_SW1, J12 SMPS3_SW2, J13 SMPS3_SW3, K2 SMPS45_FDBK, K3 SMPS45_FDBK_GND, K6 SMPS6_FBK (power), K13 SMPS3_FDBK, L5 SMPS6_GND (power), L6 SMPS6_GND (power), L7 SMPS9_GND (power), L8 SMPS9_GND (power), L9 SMPS8_GND (power), L10 SMPS8_GND (power), L11 SMPS8_FDBK, M5 SMPS6_SW (power), M6 SMPS6_IN (power), M7 SMPS9_SW (power), M8 SMPS9_IN (power), M9 SMPS8_IN (power), M10 SMPS8_SW (power), N5 SMPS6_SW (power), N6 SMPS6_IN (power), N7 SMPS9_SW (power), N8 SMPS9_IN (power), N9 SMPS8_IN (power), N10 SMPS8_SW (power)
part A text: TPS6590377
part B text: TPS6590377

## TSC2046IPWR_0
designator U?
pins: 1 VCC (power), 2 X+, 3 Y+, 4 X-, 5 Y-, 6 GND (power), 7 VBAT, 8 AUX, 9 VREF, 10 IOVDD, 11 ~{PENIRQ}, 12 DOUT, 13 BUSY, 14 DIN, 15 ~{CS}, 16 DCLK

## TUSB321RWBR_0
designator U?
pins: 1 CC1, 2 CC2, 3 VBUS_DET, 4 DIR, 5 ADDR, 6 INT_N/OUT3, 7 SDA/OUT1, 8 SCL/OUT2, 9 ID, 10 GND, 11 EN_N, 12 VDD

## TUSB321RWBR_1
designator U?
pins: 1 CC1, 2 CC2, 3 VBUS_DET, 4 DIR, 5 ADDR, 6 INT_N/OUT3, 7 SDA/OUT1, 8 SCL/OUT2, 9 ID, 10 GND, 11 EN_N, 12 VDD

## TUSB322IRWBR
designator U?
pins: 1 CC1, 2 CC2, 3 VBUS_DET, 4 DIR, 5 ADDR, 6 INT_N/OUT3, 7 SDA/OUT1, 8 SCL/OUT2, 9 ID, 10 GND, 11 EN_N, 12 VDD

## TXS0104ERGYR
designator U?
pins: 1 VCCA, 2 A1, 3 A2, 4 A3, 5 A4, 6 NC1, 7 GND, 8 OE, 9 NC2, 10 B4, 11 B3, 12 B2, 13 B1, 14 VCCB, 15 TP

## TYPE C_0
designator J?
pins: 1 A1, 2 A2, 3 A3, 4 A4, 5 A5, 6 A6, 7 A7, 8 A8, 9 A9, 10 A10, 11 A11, 12 A12, 13 B1, 14 B2, 15 B3, 16 B4, 17 B5, 18 B6, 19 B7, 20 B8, 21 B9, 22 B10, 23 B11, 24 B12, 25 SHIELD3, 26 SHIELD4, 27 SHIELD1, 28 SHIELD2

## TYPE C_1
designator J?
pins: 25 SHIELD3, 26 SHIELD4, 27 SHIELD1, 28 SHIELD2, A1, A2, A3, A4, A5, A6, A7, A8, A9, A10, A11, A12, B1, B2, B3, B4, B5, B6, B7, B8, B9, B10, B11, B12

## USB4A_2
designator J?
pins: 1 P1, 2 P2, 3 P3, 4 P4, 5 SHELD1, 6 PAD4
text: VBUS; SHIELD; D-; D+; GND

## USCF-001C2BC01-11
designator J?
pins: 1 PGND0, 2 PGND1, 3 PGND2, 4 PGND3, A1 GND0, A2 SSTXp1, A3 SSTXn1, A4 VBUS0, A5 CC1, A6 Dp1, A7 Dn1, A8 SBU1, A9 VBUS1, A10 SSRXn2, A11 SSRXp2, A12 GND1, B1 GND2, B2 SSTXp2, B3 SSTXn2, B4 VBUS2, B5 CC2, B6 Dp2, B7 Dn2, B8 SBU2, B9 VBUS3, B10 SSRXn1, B11 SSRXp1, B12 GND3

## WE05R
designator D?
pins: 1 GND, 2 IO1, 3 IO2, 4 VBUS

## WECM5412P_0
designator U?
pins: A1 OUT1, A2 OUT2, A3 OUT3, A4 OUT4, B1 GND1, B2 GND2, C1 IN1, C2 IN2, C3 IN3, C4 IN4

## X4
designator X?
pins: 1, 2, 3, 4